# Altium schematic symbol library Cap_Kemet_T491B106K025AT_eec.SchLib: 1 symbol
Pins are listed as number, name and electrical type; pins without a type are passive.

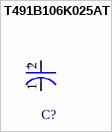
[diagram p0: symbol T491B106K025AT]

## T491B106K025AT
designator C?  (value not drawn)
pins: 1 C, 2 A
text: +